# Altium schematic symbol library Integrated_Circuits.SchLib: 3 symbols
Pins are listed as number, name and electrical type; pins without a type are passive.

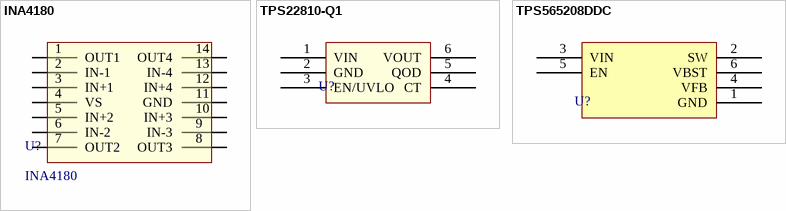
[diagram p0: symbols INA4180 to TPS565208DDC]

## INA4180
designator U?
INA4180 4 channel current sense IC; ComponentLink1Description: Datasheet; ComponentLink1URL: http://www.ti.com/lit/ds/symlink/ina4180.pdf
footprint TSSOP14
pins: 1 OUT1, 2 IN-1, 3 IN+1, 4 VS, 5 IN+2, 6 IN-2, 7 OUT2, 8 OUT3, 9 IN-3, 10 IN+3, 11 GND, 12 IN+4, 13 IN-4, 14 OUT4

## TPS22810-Q1
designator U?, comment One Channel Load Switch  (value not drawn)
2.7 - 18V @ 2A Max
footprint TPS22810-Q1
pins: 1 VIN, 2 GND, 3 EN/UVLO, 4 CT, 5 QOD, 6 VOUT

## TPS565208DDC
designator U?, comment Buck  (value not drawn)
4.5V tp 17V, 5A Synchronous Step-Down Voltage Regulator; ComponentLink1Description: Datasheet; ComponentLink1URL: http://www.ti.com/lit/ds/symlink/tps565208.pdf
footprint SOT23-6_L (SOT23, 6-Leads, Body 2.9x1.6mm, Pitch 0.95mm, Lead Span 2.7mm, IPC High Density)
pins: 1 GND, 2 SW, 3 VIN, 4 VFB, 5 EN, 6 VBST